# EAGLE library part AN5270 (library Audio-Power-amlifier V.2.0)
4.3 W ´ 1(8W) Power Amplifier with Volume Control and Tone Control
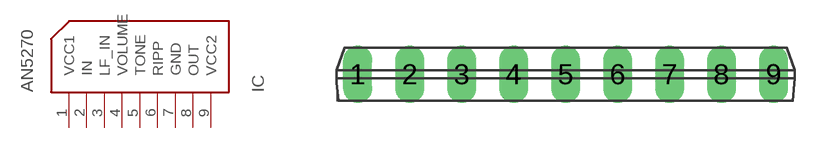
[diagram p133: symbol with the pads of HSIP09-P-0000-2,54; footprint HSIP09-P-0000-2,54]

Designator prefix IC

## AN5270  [HSIP09-P-0000-2,54]
1  VCC1  pwr
2  IN  in
3  LF_IN  in
4  VOLUME  in
5  TONE  in
6  RIPP
7  GND  pwr
8  OUT  out
9  VCC2  pwr

## Footprint HSIP09-P-0000-2,54 (pad centres in mm)
drill 0.9 long: 1 -10.16,0; 2 -7.62,0; 3 -5.08,0; 4 -2.54,0; 5 0,0; 6 2.54,0; 7 5.08,0; 8 7.62,0; 9 10.16,0